# Altium footprint library HDR_fszhang.PcbLib: 116 footprints (part 7 of 8)
Each footprint in its own frame and in the unit in brackets; x right, y up, seen from the top. Pads: shape width x height; smd on the part's side, far side on the other; paste and mask are expansions set on the pad; w line width, h text height; cw(c..) or ccw(c..) is an arc to the next point about the centre after c.
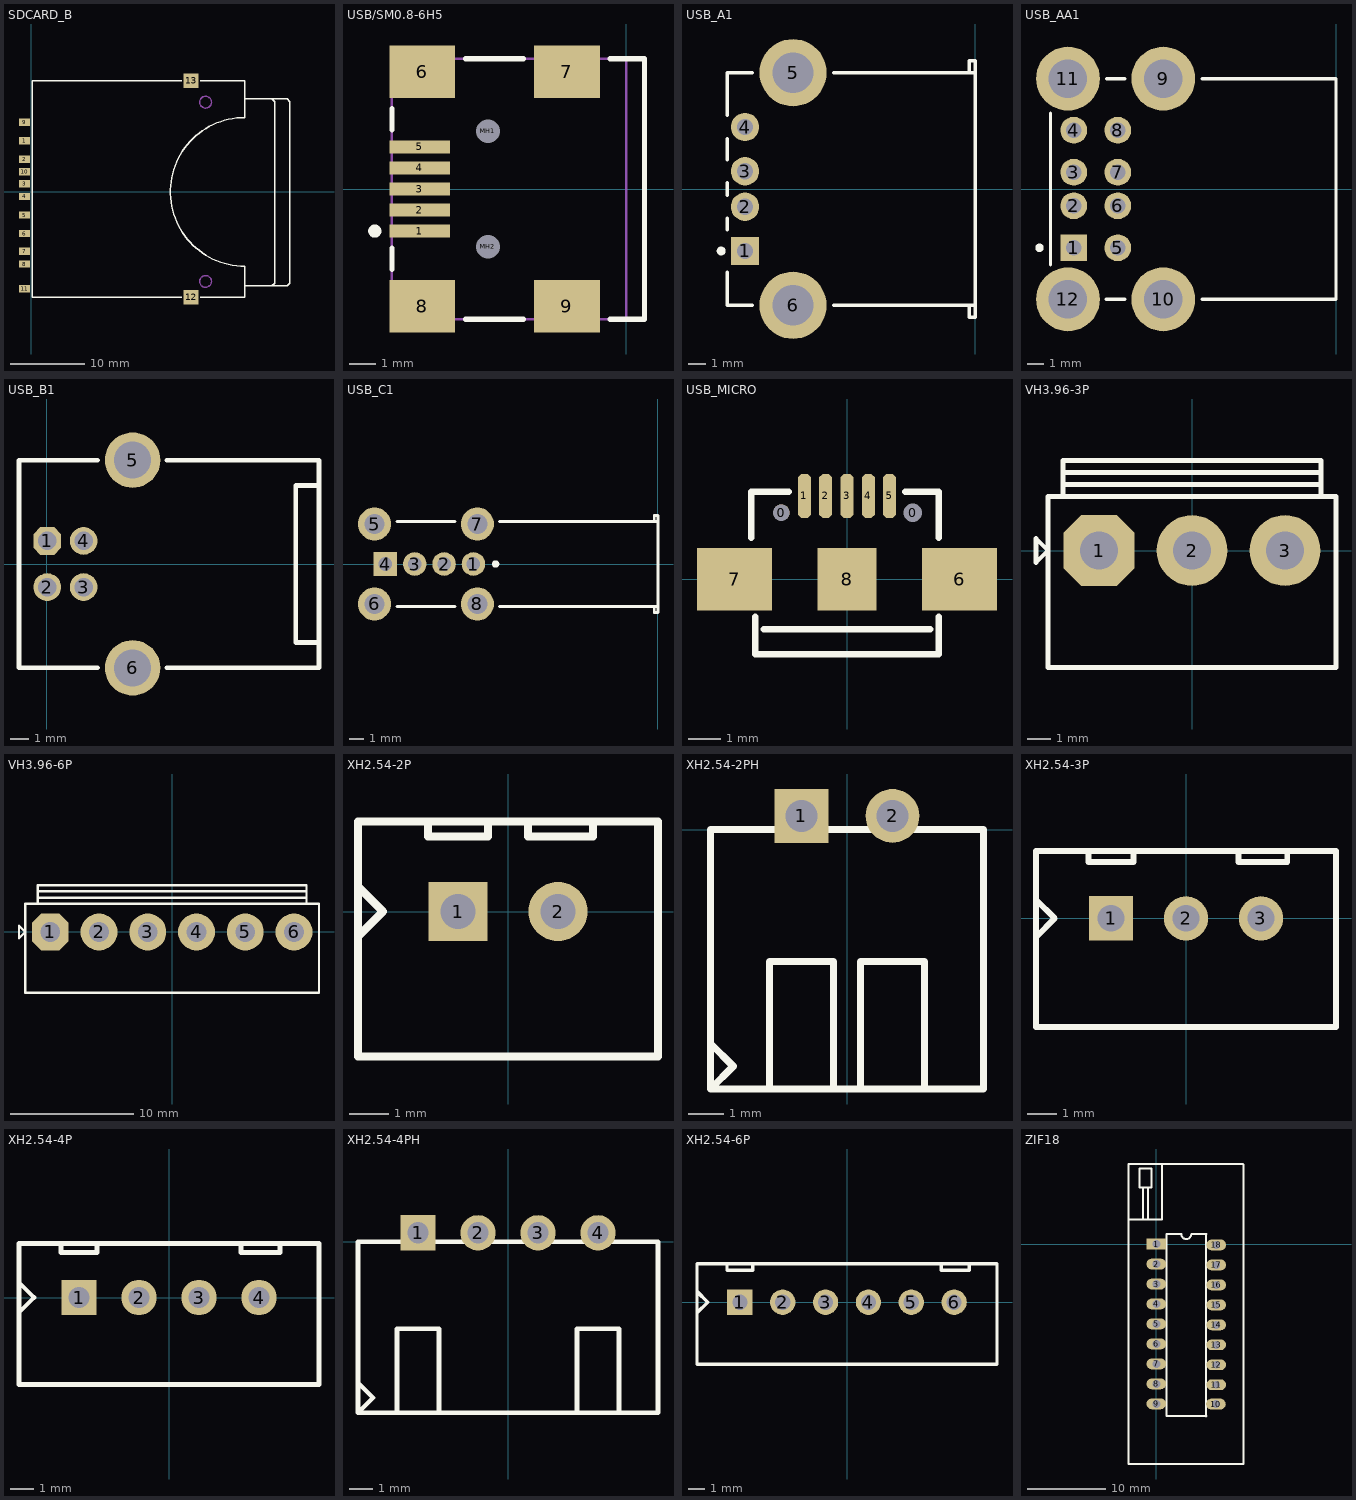
[diagram p6: the footprints below, top view; thin cyan lines are the x and y axes]

## SDCARD_B [mm] "SD卡自弹"
pads (13):
  rect 1.5x1 smd: 1(-0.889,6.88) 2(-0.889,4.38) 3(-0.889,1.08) 4(-0.889,-0.63) 5(-0.889,-3.13) 6(-0.889,-5.63) 7(-0.889,-8.05) 8(-0.889,-9.75) 9(-0.889,9.38) 10(-0.889,2.73) 11(-0.889,-13.1)
  rect 2x2 smd: 12(21.59,-14.224) 13(21.59,14.986)
Top Overlay:
  lines w0.2: 20.32,-14.224 0.127,-14.224 0.127,0 0.127,14.986 20.32,14.986 ; 22.86,-14.224 28.829,-14.224 28.829,-10.033 cw(c28.829,0) 28.829,10.033 28.829,14.986 22.86,14.986 ; 28.829,-12.7 32.893,-12.7 34.544,-12.7 34.925,-12.319 34.925,12.192 34.544,12.573 32.893,12.573 28.829,12.573 ; 32.512,-12.7 32.893,-12.319 32.893,12.192 32.512,12.573
Mechanical 1:
  circle w0.2: c23.55,12.1 r0.8
  circle w0.2: c23.55,-12.1 r0.8

## USB/SM0.8-6H5 [mm] "Connector; USB2.0, Type B, SM; 5 Position; Right Angle"
height 3.9
pads (11):
  rect 2.3x0.5 smd: 1(-7.85,-1.6) 2(-7.85,-0.8) 3(-7.85,0) 4(-7.85,0.8) 5(-7.85,1.6)
  rect 2.5x2 smd: 6(-7.75,4.45) 7(-2.25,4.45) 8(-7.75,-4.45) 9(-2.25,-4.45)
  round 0.6 hole 0.9 unplated: MH1(-5.25,2.2) MH2(-5.25,-2.2)
Top Overlay:
  circle w0.25: c-9.55,-1.6 r0.125
  lines w0.2: -8.9,-3.05 -8.9,-2.25 ; -8.9,2.25 -8.9,3.05 ; -6.1,-4.95 -3.9,-4.95 ; -6.1,4.95 -3.9,4.95 ; -0.6,-4.95 0.7,-4.95 0.7,4.95 -0.6,4.95
Mechanical 1:
  lines w0.1: 0,-4.95 0,4.95
  text "PCB Edge" at 0.432,-4.036 h0.25
Mechanical 13:
  lines w0.1: -8.9,-4.95 -8.9,4.95 0.7,4.95 0.7,-4.95 -8.9,-4.95
3D body: height 3.9, standoff 0, extent -8.9,-4.95 0.7,4.95

## USB_A1 [mm]
height 7.01
pads (6):
  rect 1.6x1.6 hole 0.92: 1(-12.99,-3.5)
  round 1.6 hole 0.92: 2(-12.99,-1) 3(-12.99,1) 4(-12.99,3.5)
  round 3.8 hole 2.3: 5(-10.28,6.57) 6(-10.28,-6.57)
Top Overlay:
  circle w0.25: c-14.34,-3.5 r0.125
  lines w0.2: -14,-4.7 -14,-6.565 -12.58,-6.565 ; -14,-2.3 -14,-1.66 ; -14,-0.34 -14,0.34 ; -14,1.66 -14,2.84 ; -14,4.16 -14,6.565 -12.58,6.565 ; -7.98,-6.565 0,-6.565 ; -7.98,6.565 0,6.565 ; -0.32,-6.565 -0.32,-7.25 0,-7.25 0,-6.565 ; -0.32,6.565 -0.32,7.25 0,7.25 0,6.565 ; 0,-6.565 0,6.565
3D body: height 7.55, standoff -3.3, extent -14.16,-7.9 0,7.9

## USB_AA1 [mm] "USB母座A型"
height 15.51
pads (12):
  rect 1.6x1.6 hole 0.92: 1(-15.61,-3.5)
  round 1.6 hole 0.92: 2(-15.61,-1) 3(-15.61,1) 4(-15.61,3.5) 5(-12.99,-3.5) 6(-12.99,-1) 7(-12.99,1) 8(-12.99,3.5)
  round 3.8 hole 2.3: 9(-10.28,6.57) 10(-10.28,-6.57) 11(-15.96,6.57) 12(-15.96,-6.57)
Top Overlay:
  circle w0.25: c-17.65,-3.5 r0.125
  lines w0.2: -17,-4.51 -17,4.51 ; -13.68,-6.565 -12.58,-6.565 ; -13.66,6.565 -12.58,6.565 ; -7.97,-6.565 0,-6.565 0,6.565 -7.97,6.565

## USB_B1 [mil] "USB方孔"
height 314.96
pads (6):
  oct 60x60 hole 40: 1(1.26,50)
  round 60 hole 40: 2(1.26,-50) 3(80,-50) 4(80,50)
  round 120 hole 80: 5(186.3,225) 6(186.3,-225)
Top Overlay:
  lines w10: 110,-225 -60,-225 -60,225 110,225 ; 260,-225 590,-225 590,225 260,225 ; 590,-170 540,-170 540,170 590,170

## USB_C1 [mm] "侧卧USB"
height 13.83
pads (8):
  round 1.6 hole 0.92: 1(-12.56,0) 2(-14.56,0) 3(-16.56,0)
  rect 1.6x1.6 hole 0.92: 4(-18.56,0)
  round 2.25 hole 1.35: 5(-19.29,2.72) 6(-19.29,-2.72) 7(-12.29,2.72) 8(-12.29,-2.72)
Top Overlay:
  circle w0.25: c-11.047,0 r0.125
  lines w0.2: -17.773,-2.88 -13.807,-2.88 ; -17.773,2.88 -13.807,2.88 ; -10.773,-2.88 0,-2.88 ; -10.773,2.88 0,2.88 ; -0.254,-2.88 -0.254,-3.302 0,-3.302 0,-2.88 ; -0.254,2.88 -0.254,3.302 0,3.302 0,2.88 ; 0,-2.88 0,2.88

## USB_MICRO [mm] "USB方孔"
height 8
pads (10):
  round 0.5 hole 0.5: 0(-2,2.032)
  round 0.5 hole 0.56: 0(2,2.032)
  oct 0.4x1.35 smd: 1(-1.3,2.54) 2(-0.65,2.54) 3(0,2.54) 4(0.65,2.54) 5(1.3,2.54)
  rect 2.286x1.9 smd: 6(3.429,0) 7(-3.429,0)
  rect 1.8x1.9 smd: 8(0,0)
Top Overlay:
  lines w0.2: -2.921,1.27 -2.921,2.667 -1.778,2.667 ; -2.794,-1.143 -2.794,-2.286 2.794,-2.286 2.794,-1.143 ; -2.54,-1.524 2.54,-1.524 ; 1.778,2.667 2.794,2.667 2.794,1.27

## VH3.96-3P [mm] "VH3.96接插件"
height 1.5
pads (3):
  oct 3x3 hole 1.6: 1(-3.937,0)
  round 3 hole 1.6: 2(0,0) 3(3.937,0)
Top Overlay:
  lines w0.2: -5.461,2.286 -5.461,3.81 5.461,3.81 5.461,2.286 ; -5.461,2.794 5.461,2.794 ; -5.461,3.302 5.461,3.302 ; -6.604,-0.508 -6.096,0 -6.604,0.508 -6.604,-0.508 ; -6.096,-4.953 -6.096,2.286 6.096,2.286 6.096,-4.953 -6.096,-4.953

## VH3.96-6P [mm] "CH3.96接插件"
height 1.5
pads (6):
  oct 3x3 hole 1.6: 1(-9.906,0)
  round 3 hole 1.6: 2(-5.944,0) 3(-1.981,0) 4(1.981,0) 5(5.944,0) 6(9.906,0)
Top Overlay:
  lines w0.2: -10.922,2.286 -10.922,3.81 10.922,3.81 10.922,2.286 ; -10.922,2.794 10.922,2.794 ; -10.922,3.302 10.922,3.302 ; -12.446,-0.508 -11.938,0 -12.446,0.508 -12.446,-0.508 ; -11.938,-4.953 -11.938,2.286 11.938,2.286 11.938,-4.953 -11.938,-4.953

## XH2.54-2P [mm] "XH2.54端子直针"
height 1.6
pads (2):
  rect 1.5x1.5 hole 0.9: 1(-1.27,0)
  round 1.5 hole 0.9: 2(1.27,0)
Top Overlay:
  lines w0.2: -3.81,-0.635 -3.175,0 -3.81,0.635 ; -2.032,2.286 -2.032,1.905 -0.508,1.905 -0.508,2.286 ; 0.508,2.286 0.508,1.905 2.159,1.905 2.159,2.286 ; -3.81,-3.683 3.81,-3.683 3.81,2.286 -3.81,2.286 -3.81,-3.683
3D body: height 1.5, standoff 0, extent -3.81,-3.683 3.81,2.159

## XH2.54-2PH [mm] "XH2.54端子弯针"
height 1.6
pads (2):
  rect 1.5x1.5 hole 0.9: 1(-1.27,0.381)
  round 1.5 hole 0.9: 2(1.27,0.381)
Top Overlay:
  lines w0.2: -3.81,-5.969 -3.175,-6.604 -3.81,-7.239 ; -2.159,-7.239 -2.159,-3.683 -0.381,-3.683 -0.381,-7.239 ; 0.381,-7.239 0.381,-3.683 2.159,-3.683 2.159,-7.239 ; -3.81,-7.239 3.81,-7.239 3.81,0 -3.81,0 -3.81,-7.239
3D body: height 1.5, standoff 0, extent -3.81,-7.239 3.81,0

## XH2.54-3P [mm] "XH2.54端子直针"
height 1.5
pads (3):
  rect 1.5x1.5 hole 0.9: 1(-2.54,0)
  round 1.5 hole 0.9: 2(0,0) 3(2.54,0)
Top Overlay:
  lines w0.2: -5.08,-0.635 -4.445,0 -5.08,0.635 ; -3.302,2.286 -3.302,1.905 -1.778,1.905 -1.778,2.286 ; 1.778,2.286 1.778,1.905 3.429,1.905 3.429,2.286 ; -5.08,-3.683 -5.08,2.286 5.08,2.286 5.08,-3.683 -5.08,-3.683
3D body: height 1.5, standoff 0, extent -5.08,-3.683 5.08,2.286

## XH2.54-4P [mm] "XH2.54端子直针"
height 1.6
pads (4):
  rect 1.5x1.5 hole 0.9: 1(-3.81,0)
  round 1.5 hole 0.9: 2(-1.27,0) 3(1.27,0) 4(3.81,0)
Top Overlay:
  lines w0.2: -6.35,-0.635 -5.715,0 -6.35,0.635 ; -4.572,2.286 -4.572,1.905 -3.048,1.905 -3.048,2.286 ; 3.048,2.286 3.048,1.905 4.699,1.905 4.699,2.286 ; -6.35,-3.683 6.35,-3.683 6.35,2.286 -6.35,2.286 -6.35,-3.683
3D body: height 1.5, standoff 0, extent -6.223,-3.492 6.223,2.223

## XH2.54-4PH [mm] "XH2.54端子弯针"
height 1.6
pads (4):
  rect 1.5x1.5 hole 0.9: 1(-3.81,0.381)
  round 1.5 hole 0.9: 2(-1.27,0.381) 3(1.27,0.381) 4(3.81,0.381)
Top Overlay:
  lines w0.2: -6.35,-5.969 -5.715,-6.604 -6.35,-7.239 ; -4.699,-7.239 -4.699,-3.683 -2.921,-3.683 -2.921,-7.239 ; 2.921,-7.239 2.921,-3.683 4.699,-3.683 4.699,-7.239 ; -6.35,-7.239 -6.35,0 6.35,0 6.35,-7.239 -6.35,-7.239
3D body: height 1.5, standoff 0, extent -6.35,-7.239 6.35,0

## XH2.54-6P [mm] "XH2.54端子直针"
height 1.6
pads (6):
  rect 1.5x1.5 hole 0.9: 1(-6.35,0)
  round 1.5 hole 0.9: 2(-3.81,0) 3(-1.27,0) 4(1.27,0) 5(3.81,0) 6(6.35,0)
Top Overlay:
  lines w0.2: -8.89,-0.635 -8.255,0 -8.89,0.635 ; -7.112,2.286 -7.112,1.905 -5.588,1.905 -5.588,2.286 ; 5.588,2.286 5.588,1.905 7.239,1.905 7.239,2.286 ; -8.89,-3.683 -8.89,2.286 8.89,2.286 8.89,-3.683 -8.89,-3.683
3D body: height 1.5, standoff 0, extent -8.89,-3.619 8.89,2.35

## ZIF18 [mm]
pads (18):
  rect 2.5x1.38 hole 1: 1(0,0)
  oval 2.5x1.38 hole 1: 2(0,-2.54) 3(0,-5.08) 4(0,-7.62) 5(0,-10.16) 6(0,-12.7) 7(0,-15.24) 8(0,-17.78) 9(0,-20.32) 10(7.578,-20.354) 11(7.62,-17.894) 12(7.62,-15.354) 13(7.62,-12.814) 14(7.62,-10.274) 15(7.62,-7.734) 16(7.62,-5.194) 17(7.62,-2.654) 18(7.62,-0.114)
Top Overlay:
  lines w0.254: -3.535,-27.974 11.007,-27.974 ; -3.535,-27.821 -3.522,-18.236 -3.522,-7.112 -3.522,10.186 -3.252,10.186 11.022,10.186 ; -3.522,3.148 0.726,3.148 0.726,10.15 ; -1.686,3.238 -1.686,7.198 ; -1.038,3.148 -1.038,7.198 ; 6.346,-21.916 6.346,1.249 ; 6.35,-21.895 1.27,-21.895 1.27,1.27 3.175,1.27 ccw(c3.81,1.27) 4.445,1.27 6.35,1.27 ; 11.058,-27.974 11.076,-17.984 11.076,-6.986 11.076,10.132 ; -2.136,7.216 -2.118,7.198 -0.606,7.198 -0.606,9.574 -0.642,9.61 -2.136,9.61 -2.136,7.216